# Altium footprint library USB_Connector.PcbLib: 4 footprints
Each footprint in its own frame and in the unit in brackets; x right, y up, seen from the top. Pads: shape width x height; smd on the part's side, far side on the other; paste and mask are expansions set on the pad; w line width, h text height; cw(c..) or ccw(c..) is an arc to the next point about the centre after c.
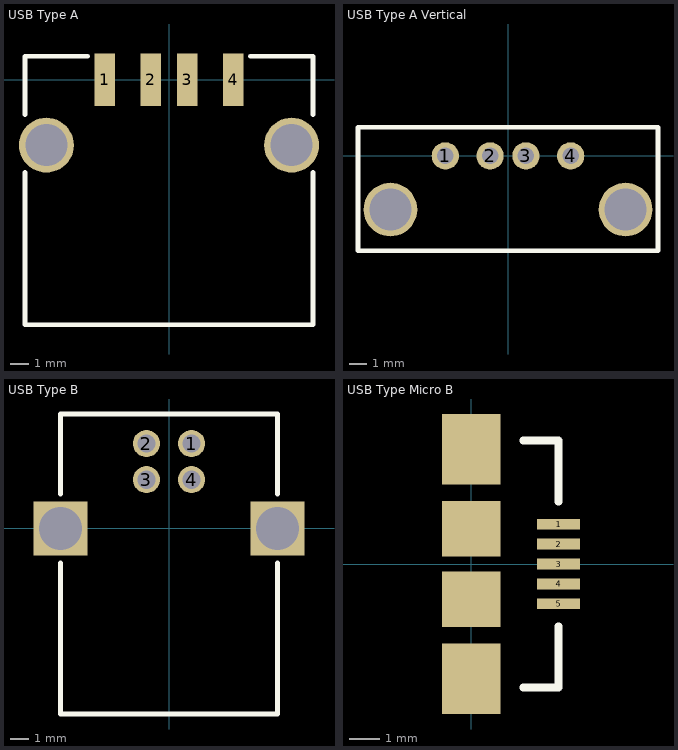
[diagram p0: the footprints below, top view; thin cyan lines are the x and y axes]

## USB Type A [mm] "USB Connector A"
pads (6):
  rect 1.12x2.88 smd: 1(-3.5,0) 2(-1,0) 3(1,0) 4(3.5,0)
  round 3 hole 2.3: ""(-6.7,-3.58) ""(6.7,-3.58)
Top Overlay:
  lines w0.254: -7.874,-5.08 -7.874,-13.4 7.874,-13.4 7.874,-5.08 ; -7.874,-1.905 -7.874,1.27 -4.445,1.27 ; 4.445,1.27 7.874,1.27 7.874,-1.905
3D body: height 7.54, standoff -3.77, extent -7.85,-13.88 7.85,1.27

## USB Type A Vertical [mm]
pads (6):
  round 1.524 hole 0.92: 1(-3.5,0) 2(-1,0) 3(1,0) 4(3.5,0)
  round 3 hole 2.33: ""(-6.57,-3) ""(6.57,-3)
Top Overlay:
  lines w0.254: -8.382,-5.3 -8.382,1.6 8.382,1.6 8.382,-5.3 -8.382,-5.3
3D body: height 14.9, standoff -3.9, extent -7.85,-4.804 7.85,2.036

## USB Type B [mm] "USB Connector B"
pads (6):
  round 1.5 hole 1.02: 1(1.25,4.71) 2(-1.25,4.71) 3(-1.25,2.71) 4(1.25,2.71)
  rect 3x3 hole 2.4: ""(-6.02,0) ""(6.02,0)
Top Overlay:
  lines w0.254: -6.02,-1.905 -6.02,-10.3 6.02,-10.3 6.02,-1.905 ; -6.02,1.905 -6.02,6.35 6.02,6.35 6.02,1.905
3D body: height 11.1, standoff -4.12, extent -7.43,-10.407 7.43,6.593

## USB Type Micro B [mm] "USB Connector Micro B"
pads (9):
  rect 1.4x0.35 smd: 1(2.85,1.3) 2(2.85,0.65) 3(2.85,0) 4(2.85,-0.65) 5(2.85,-1.3)
  rect 1.9x2.3 smd: ""(0,-3.75) ""(0,3.75)
  rect 1.9x1.8 smd: ""(0,-1.15) ""(0,1.15)
Top Overlay:
  lines w0.254: 1.7,-4.03 2.85,-4.03 2.85,-2.03 ; 1.7,4.03 2.85,4.03 2.85,2.03
3D body: height 2.68, standoff -0.02, extent -2.206,-3.9 2.794,3.9